# Altium schematic symbol library Optical-Sensor.SchLib: 1 symbol
Pins are listed as number, name and electrical type; pins without a type are passive.

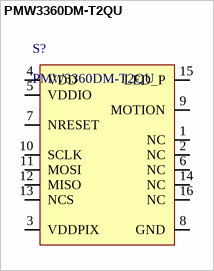
[diagram p0: symbol PMW3360DM‐T2QU]

## PMW3360DM‐T2QU
designator S?
Optical Navigation Chip; IP Protected: Yes; Supplier 1: PixArt Imaging Inc; Supplier Part Number 1: PMW3360DM‐T2QU; Value: N/A; Precision: N/A
footprint PMW3360DM-T2QU (PixArt Optical Tracking Sensor)
pins: 1 NC, 2 NC, 3 VDDPIX, 4 VDD, 5 VDDIO, 6 NC, 7 NRESET, 8 GND, 9 MOTION, 10 SCLK, 11 MOSI, 12 MISO, 13 NCS, 14 NC, 15 LED_P, 16 NC